# EAGLE library part TPS61021A (library bschulz)
TPS61021A - Boost Converter with Ultra Low Input Voltage Characteristics: Vin: 0.5V ~ 4.4V Vout: 1.8V ~ 4.0V (Fixed options available) Output Current: 1.5 A (if Vout = 3.3V, Vin > 1.8V) 1A (if Vout = 3.3V, Vin > 1.2V) IQ: ~20μA ISD: 0.5μA Operating Temperature: -40°C to 85°C Digikey: 296-46241-1-ND <https://www.digikey.com/en/products/detail/texas-instruments/TPS61021ADSGT/6572480>
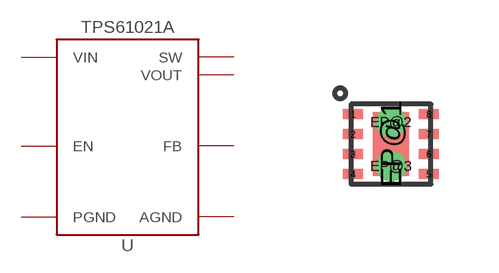
[diagram p138: symbol with the pads of DSG0008A; footprint DSG0008A]

Designator prefix U

## TPS61021A (DIGIKEY: 296-46241-1-ND; MF: TI; MPN: TPS61021ADSGT)  [DSG0008A]
1  AGND  pwr
2  FB  in
3  VOUT  pwr
4  VOUT  pwr
5  EN  in
6  SW  pwr
7  SW  pwr
8  VIN  pwr
EP@1  PGND  pwr
EP@2  PGND  pwr
EP@3  PGND  pwr

## Footprint DSG0008A (pad centres in mm)
WSON - 8, Power, EP Datasheet <https://www.ti.com/lit/ds/symlink/tps61021a.pdf?ts=1614355556252&ref_url=https%253A%252F%252Fwww.ti.com%252Fproduct%252FTPS61021A%253Futm_source%253Dgoogle%2526utm_medium%253Dcpc%2526utm_campaign%253DAPP-BMC-BCS-prodfolderdynamic-cpc-pf-google-eu%2526utm_content%253Dprodfolddynamic%2526ds_k%253DDYNAMIC%2BSEARCH%2BADS%2526DCM%253Dyes%2526gclid%253DEAIaIQobChMI6KaNh_eH7wIVShoGAB1OuwJuEAAYASAAEgKSwPD_BwE%2526gclsrc%253Daw.ds>
smd 0.5 x 0.25: 1 -0.95,0.75; 2 -0.95,0.25; 3 -0.95,-0.25; 4 -0.95,-0.75; 5 0.95,-0.75; 6 0.95,-0.25; 7 0.95,0.25; 8 0.95,0.75
smd 0.9 x 1.6: EP@1 0,0
drill 0.254 pad 0.305: EP@2 0,0.55; EP@3 0,-0.55